# EAGLE library part RFM23B (library SparkFun-RF)
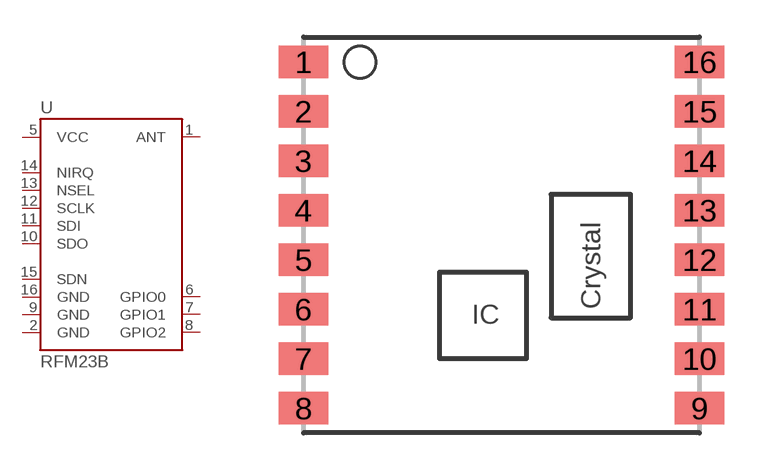
[diagram p62: symbol with the pads of RFM23-XXX-S1; footprint RFM23-XXX-S1]

Designator prefix -

## RFM23B  [RFM23-XXX-S1]
1  ANT
2  GND  pwr
5  VCC
6  GPIO0
7  GPIO1
8  GPIO2
9  GND  pwr
10  SDO  out
11  SDI  in
12  SCLK  in
13  NSEL  in
14  NIRQ  out
15  SDN  in
16  GND  pwr

## Footprint RFM23-XXX-S1 (pad centres in mm)
smd 2 x 1.3: 1 -8,7; 2 -8,5; 3 -8,3; 4 -8,1; 5 -8,-1; 6 -8,-3; 7 -8,-5; 8 -8,-7; 9 8,-7; 10 8,-5; 11 8,-3; 12 8,-1; 13 8,1; 14 8,3; 15 8,5; 16 8,7